# EAGLE library part LPC812M101FD20 (library carrilib)
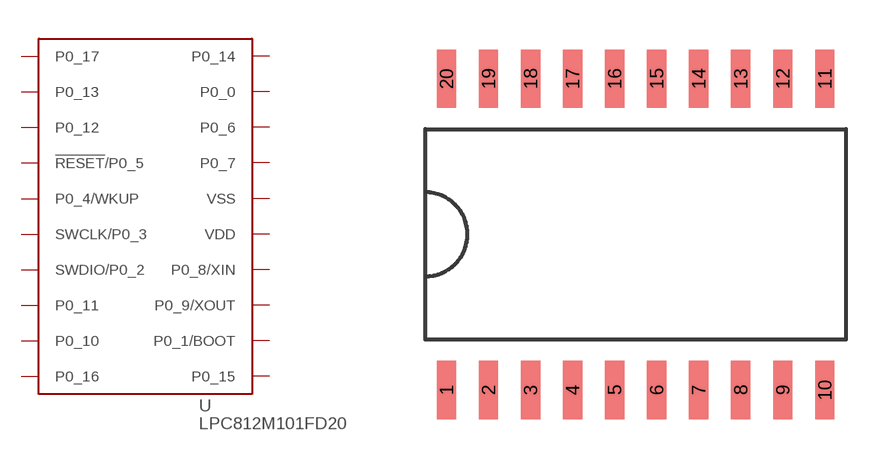
[diagram p33: symbol with the pads of SO20W; footprint SO20W]

Designator prefix -

## LPC812M101FD20  [SO20W]
1  P0_17
2  P0_13
3  P0_12
4  !RESET!/P0_5
5  P0_4/WKUP
6  SWCLK/P0_3
7  SWDIO/P0_2
8  P0_11
9  P0_10
10  P0_16
11  P0_15
12  P0_1/BOOT
13  P0_9/XOUT
14  P0_8/XIN
15  VDD
16  VSS
17  P0_7
18  P0_6
19  P0_0
20  P0_14

## Footprint SO20W (pad centres in mm)
smd 0.584 x 1.753: 1 -5.715,-4.699; 2 -4.445,-4.699; 3 -3.175,-4.699; 4 -1.905,-4.699; 5 -0.635,-4.699; 6 0.635,-4.699; 7 1.905,-4.699; 8 3.175,-4.699; 9 4.445,-4.699; 10 5.715,-4.699; 11 5.715,4.699; 12 4.445,4.699; 13 3.175,4.699; 14 1.905,4.699; 15 0.635,4.699; 16 -0.635,4.699; 17 -1.905,4.699; 18 -3.175,4.699; 19 -4.445,4.699; 20 -5.715,4.699